# Altium footprint library Connector_THT.PcbLib: 34 footprints (part 3 of 3)
Each footprint in its own frame and in the unit in brackets; x right, y up, seen from the top. Pads: shape width x height; smd on the part's side, far side on the other; paste and mask are expansions set on the pad; w line width, h text height; cw(c..) or ccw(c..) is an arc to the next point about the centre after c.
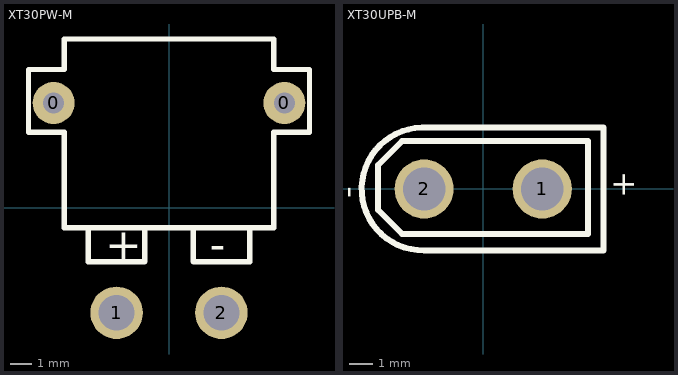
[diagram p2: the footprints below, top view; thin cyan lines are the x and y axes]

## XT30PW-M [mm] "电源连接器"
pads (4):
  round 2 hole 1: 0(-5.5,5) 0(5.5,5)
  round 2.5 hole 1.7: 1(-2.5,-5) 2(2.5,-5)
Top Overlay:
  lines w0.254: -3.85,-0.975 -3.85,-2.575 -1.175,-2.575 -1.15,-2.55 -1.15,-0.95 ; 1.15,-0.95 1.15,-2.55 1.175,-2.575 3.85,-2.575 3.85,-0.975 ; -6.7,3.6 -6.7,6.6 -5,6.6 -5,8.05 0,8.05 5,8.05 5,6.6 6.7,6.6 6.7,3.6 5,3.6 5,-0.95 0,-0.95 -5,-0.95 -5,3.6 -6.7,3.6
  text "-" at 1.954,-2.508 h1.52
  text "+" at -3.046,-2.5 h1.52
3D body "User Library-XT30PW-M.STEP": height 5.03, standoff -1.97, extent -6.661,-5.916 6.639,8.034

## XT30UPB-M [mm]
pads (2):
  round 2.5 hole 1.8: 1(2.5,0) 2(-2.5,0)
Top Overlay:
  lines w0.254: -4.445,-0.889 -3.429,-1.905 4.445,-1.905 4.445,2.032 -3.429,2.032 -4.445,1.016 -4.445,-0.889 ; -2.597,2.6 ccw(c-2.544,0) -2.506,-2.6 5.1,-2.6 5.1,2.6 -2.597,2.6
  text "+" at 6.4,-0.4 h1
  text "-" at -5.3,-0.4 h1
3D body "User Library-xt30upb-m.STEP": height 9.5, standoff -1.9, extent -5.1,-2.605 5.1,2.595